# EAGLE library part MICROUSB_BREAKOUT (library eload_powermeter)
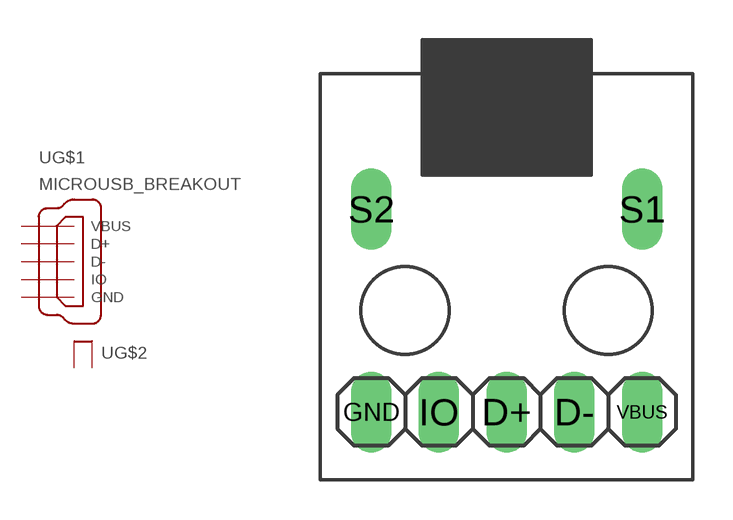
[diagram p0: symbol with the pads of MICRO_USB; footprint MICRO_USB]

Designator prefix -; gates G$1=MINI-USB-5 G$2=SHIELD2

## MICROUSB_BREAKOUT  [MICRO_USB]
D+  G$1:D+  pas
D-  G$1:D-  pas
GND  G$1:GND  pas
IO  G$1:IO  pas
S1  G$2:S1  pas
S2  G$2:S2  pas
VBUS  G$1:VBUS  pas

## Footprint MICRO_USB (pad centres in mm)
PIN HEADER
drill 1.016 long: D+ 0,-5.08; D- 2.54,-5.08; GND -5.08,-5.08; IO -2.54,-5.08; S1 5.08,2.54; S2 -5.08,2.54; VBUS 5.08,-5.08